# Altium footprint library GOSTMicrocontroller.PcbLib: 1 footprints
Each footprint in its own frame and in the unit in brackets; x right, y up, seen from the top. Pads: shape width x height; smd on the part's side, far side on the other; paste and mask are expansions set on the pad; w line width, h text height; cw(c..) or ccw(c..) is an arc to the next point about the centre after c.
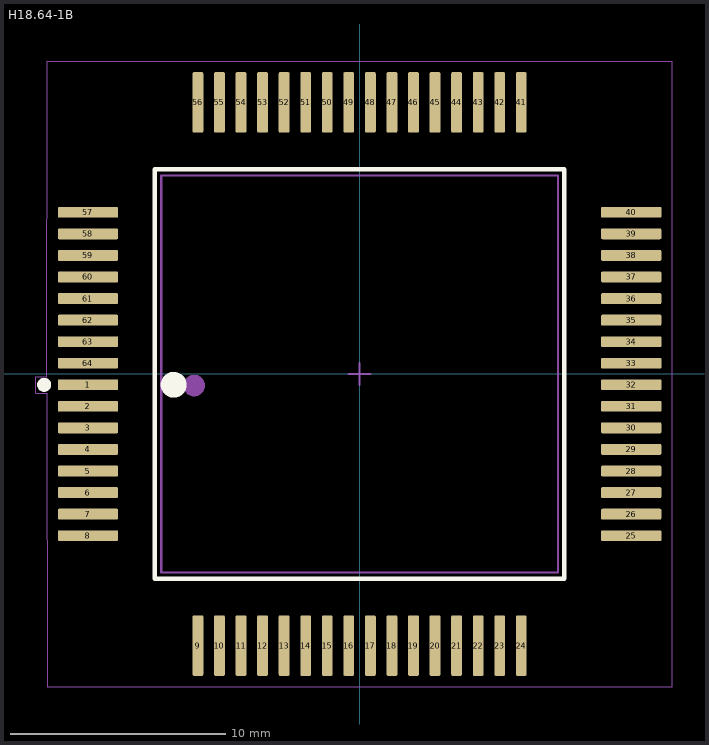
[diagram p0: the footprint, top view; thin cyan lines are the x and y axes]

## H18.64-1B [mm] "64-õ âûâîäíîé ìåòàëëîêåðàìè÷åñêèé êîðïóñ"
pads (64):
  rect 2.8x0.5 smd paste-0.025 mask+0.1: 1(-12.6,-0.5)
  rrect25% 2.8x0.5 smd paste-0.025 mask+0.1: 2(-12.6,-1.5) 3(-12.6,-2.5) 4(-12.6,-3.5) 5(-12.6,-4.5) 6(-12.6,-5.5) 7(-12.6,-6.5) 8(-12.6,-7.5) 25(12.6,-7.5) 26(12.6,-6.5) 27(12.6,-5.5) 28(12.6,-4.5) 29(12.6,-3.5) 30(12.6,-2.5) 31(12.6,-1.5) 32(12.6,-0.5) 33(12.6,0.5) 34(12.6,1.5) 35(12.6,2.5) 36(12.6,3.5) 37(12.6,4.5) 38(12.6,5.5) 39(12.6,6.5) 40(12.6,7.5) 57(-12.6,7.5) 58(-12.6,6.5) 59(-12.6,5.5) 60(-12.6,4.5) 61(-12.6,3.5) 62(-12.6,2.5) 63(-12.6,1.5) 64(-12.6,0.5)
  rrect25% 0.5x2.8 smd paste-0.025 mask+0.1: 9(-7.5,-12.6) 10(-6.5,-12.6) 11(-5.5,-12.6) 12(-4.5,-12.6) 13(-3.5,-12.6) 14(-2.5,-12.6) 15(-1.5,-12.6) 16(-0.5,-12.6) 17(0.5,-12.6) 18(1.5,-12.6) 19(2.5,-12.6) 20(3.5,-12.6) 21(4.5,-12.6) 22(5.5,-12.6) 23(6.5,-12.6) 24(7.5,-12.6) 41(7.5,12.6) 42(6.5,12.6) 43(5.5,12.6) 44(4.5,12.6) 45(3.5,12.6) 46(2.5,12.6) 47(1.5,12.6) 48(0.5,12.6) 49(-0.5,12.6) 50(-1.5,12.6) 51(-2.5,12.6) 52(-3.5,12.6) 53(-4.5,12.6) 54(-5.5,12.6) 55(-6.5,12.6) 56(-7.5,12.6)
Top Overlay:
  circle w0.35: c-14.628,-0.5 r0.15
  circle w0.6: c-8.625,-0.5 r0.3
  lines w0.2: -9.5,-9.5 -9.5,9.5 9.5,9.5 9.5,-9.5 -9.5,-9.5
Mechanical 6:
  text ".Comment" at -2.059,1.493 h1.2
Mechanical 9:
  text ".Designator" at -2.62,2.474 h1.5
Mechanical 11:
  circle w0.5: c-7.674,-0.535 r0.25
  lines w0.1: -9.2,-9.2 -9.2,9.2 9.2,9.2 9.2,-9.2 -9.2,-9.2
Mechanical 15:
  lines w0.05: -15.018,-0.889 -15.018,-0.127 -14.51,-0.127 -14.478,14.5 14.5,14.5 14.5,-14.5 -14.478,-14.5 -14.51,-0.889 -15.018,-0.889
  lines w0.1: -0.5,0 0.5,0 ; 0,-0.5 0,0.5
3D body "User Library-H18_64-1B.STEP": height 2.51, standoff 0, extent -12.15,-12.15 12.15,12.15